# Altium footprint library 2167000249.PcbLib: 1 footprints
Each footprint in its own frame and in the unit in brackets; x right, y up, seen from the top. Pads: shape width x height; smd on the part's side, far side on the other; paste and mask are expansions set on the pad; w line width, h text height; cw(c..) or ccw(c..) is an arc to the next point about the centre after c.
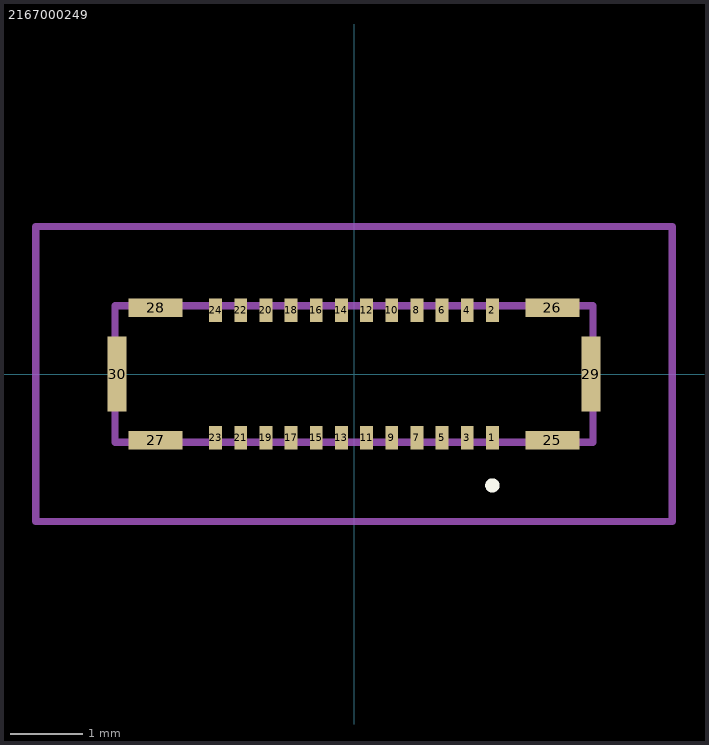
[diagram p0: the footprint, top view; thin cyan lines are the x and y axes]

## 2167000249 [mm]
pads (30):
  rect 0.18x0.325 smd: 1(1.925,-0.888) 2(1.925,0.887) 3(1.575,-0.888) 4(1.575,0.887) 5(1.225,-0.888) 6(1.225,0.887) 7(0.875,-0.888) 8(0.875,0.887) 9(0.525,-0.888) 10(0.525,0.887) 11(0.175,-0.888) 12(0.175,0.887) 13(-0.175,-0.888) 14(-0.175,0.887) 15(-0.525,-0.888) 16(-0.525,0.887) 17(-0.875,-0.888) 18(-0.875,0.887) 19(-1.225,-0.888) 20(-1.225,0.887) 21(-1.575,-0.888) 22(-1.575,0.887) 23(-1.925,-0.888) 24(-1.925,0.887)
  rect 0.75x0.26 smd: 25(2.76,-0.92) 26(2.76,0.92) 27(-2.76,-0.92) 28(-2.76,0.92)
  rect 0.26x1.04 smd: 29(3.295,0) 30(-3.295,0)
Top Overlay:
  lines w0.1: 1.925,-1.6 1.925,-1.6 ; 1.925,-1.6 ccw(c1.925,-1.55) 1.925,-1.5 ; 1.925,-1.6 cw(c1.925,-1.55) 1.925,-1.5 ; 1.925,-1.5 1.925,-1.5
Mechanical 15:
  lines w0.1: -3.325,-0.95 3.325,-0.95 3.325,0.95 -3.325,0.95 -3.325,-0.95
Mechanical 20:
  lines w0.1: -4.425,-2.05 4.425,-2.05 4.425,2.05 -4.425,2.05 -4.425,-2.05